# Altium footprint library Header.PcbLib: 1 footprints
Each footprint in its own frame and in the unit in brackets; x right, y up, seen from the top. Pads: shape width x height; smd on the part's side, far side on the other; paste and mask are expansions set on the pad; w line width, h text height; cw(c..) or ccw(c..) is an arc to the next point about the centre after c.
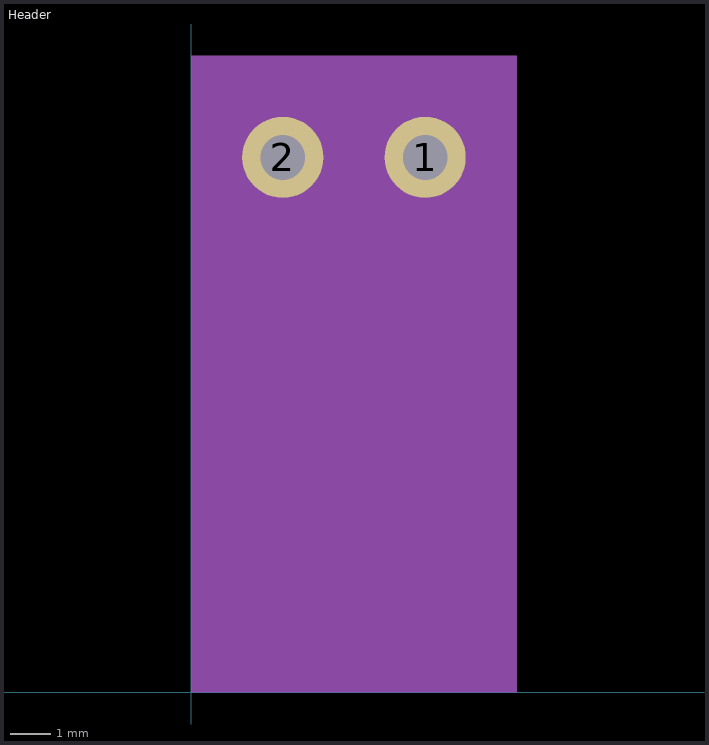
[diagram p0: the footprint, top view; thin cyan lines are the x and y axes]

## Header [mm] "High Voltage Connector"
height 1.575
pads (2):
  round 2 hole 1.1: 1(5.75,13.16) 2(2.25,13.16)
Mechanical 15:
  region: 0,0 0,15.66 8,15.66 8,0
3D body: height 0.25, standoff 0, extent 1.016,0.889 6.858,14.605